# Altium integrated library Analog Devices Data Converters Digital-to-Analog Converters.IntLib: 2231 symbols (part 144 of 181)
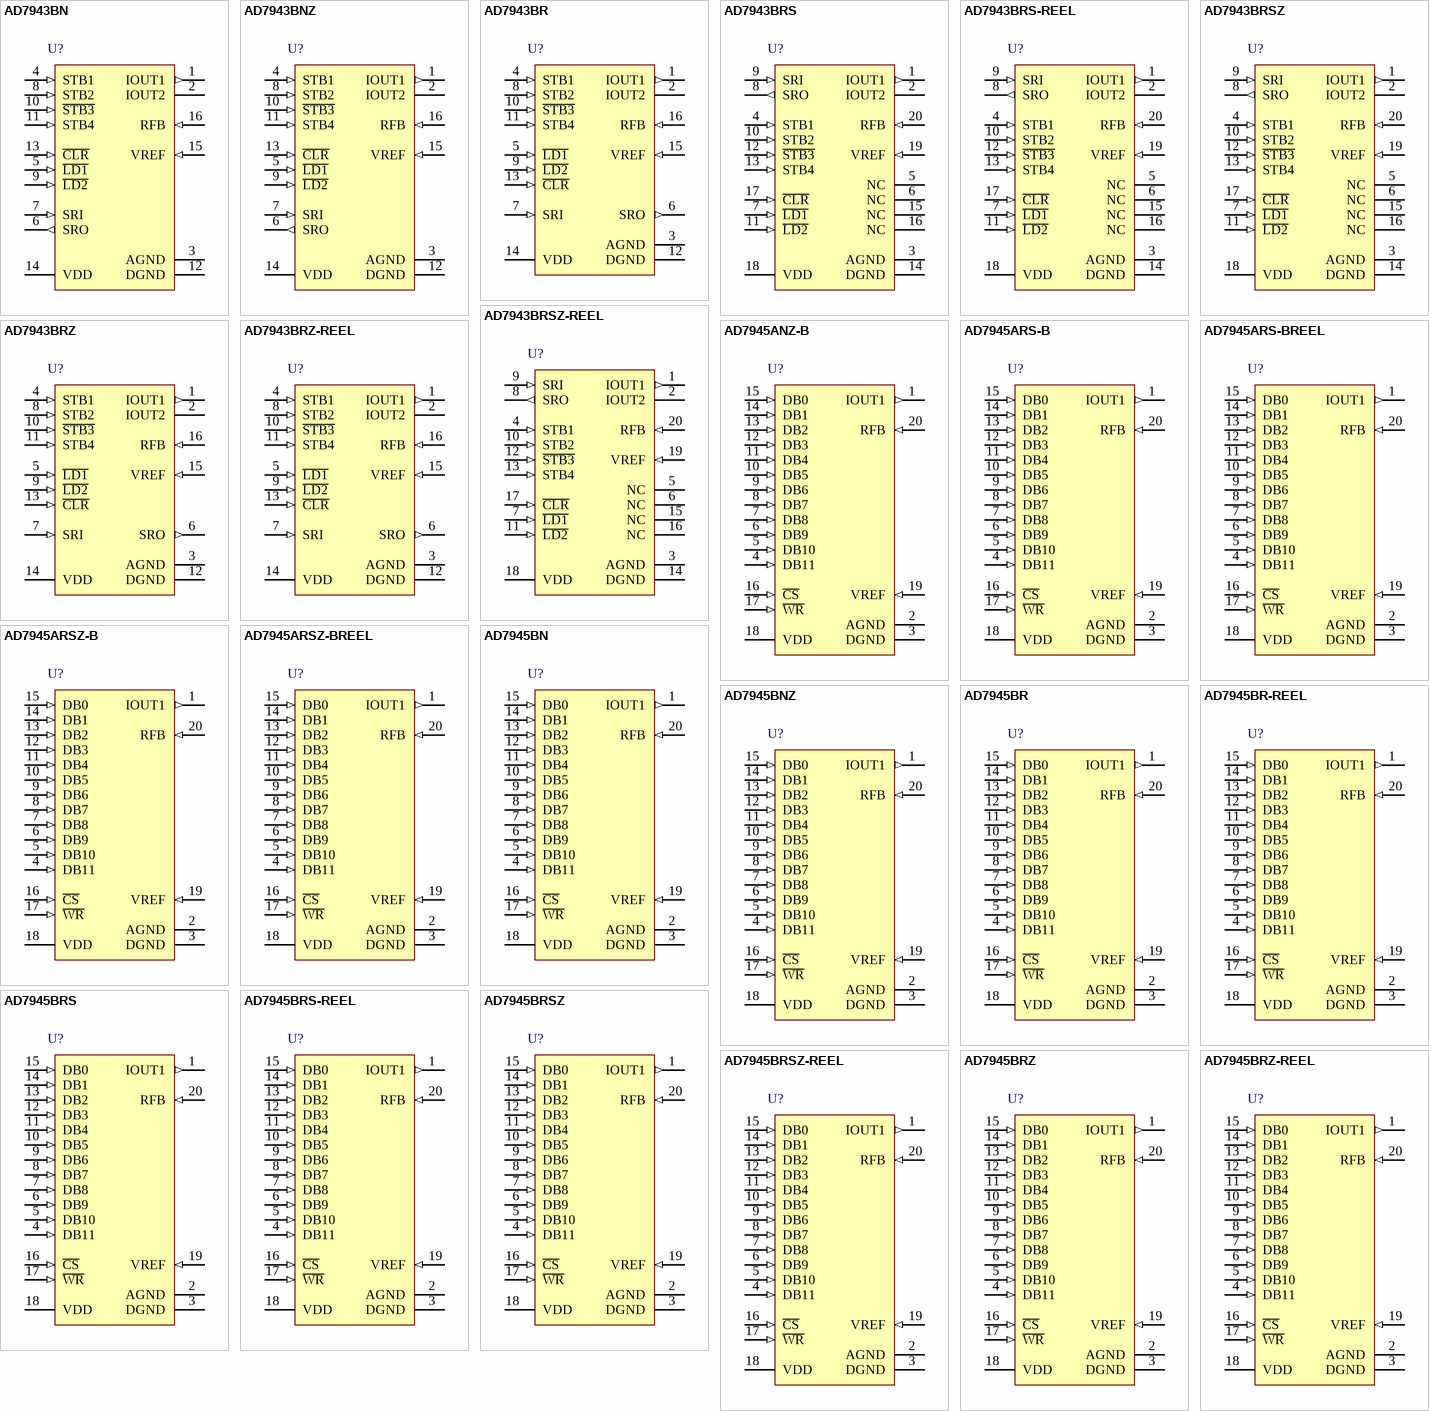
[diagram p257: symbols AD7943BN to AD7945BRZ-REEL]

## AD7943BR
designator U?
Single 12-Bit Multiplying Digital-to-Analog Converter, 3.3 V / 5 V, -40 to +85 degC, RW-16, Tube; Generic Part Number: AD7943; Manufacturer: Analog Devices; PartNumber: AD7943BR; # DAC Outputs: 1; Max V+: 5.5V; Op Pwr Diss: 25µW; Resolution (Bits): 12; Settling Time: 600ns; Single Supply: Yes; DatasheetVersion: Rev.B; PackageVersion: 032707-B; PackageReference: RW-16; PackageDescription: 16-Lead Standard Small Outline Package [SOIC_W]; Supplier 1: Digi-Key; Supplier Part Number 1: AD7943BR-ND; Supplier 2: Mouser; Supplier Part Number 2: 584-AD7943BR; Packing: Tube; RoHS: N; Mounting Technology: Surface Mount; Code_JEDEC: MS-013-AA; Code_IPC: SOIC127P1030-16; ComponentLink1Description: Manufacturer URL; ComponentLink1URL: http://www.analog.com/en/index.html; ComponentLink2Description: Datasheet; ComponentLink2URL: http://www.analog.com/static/imported-files/data_sheets/AD7943_7945_7948.pdf; ComponentLink3Description: Package Specification; ComponentLink3URL: http://www.analog.com/static/imported-files/packages/PKG_PDF/SOIC_WIDE%20%28RW%29/RW_16.pdf; ComponentLink4Description: Product URL; ComponentLink4URL: http://www.analog.com/en/digital-to-analog-converters/da-converters/ad7943/products/product.html
footprint RW-16_N (SOIC, 16-Leads, Body 10.3x7.5mm, Pitch 1.27mm, IPC Medium Density)
footprint RW-16_L (SOIC, 16-Leads, Body 10.3x7.5mm, Pitch 1.27mm, IPC High Density)
footprint RW-16_M (SOIC, 16-Leads, Body 10.3x7.5mm, Pitch 1.27mm, IPC Low Density)
pins: 1 IOUT1 (out) "DAC current output terminal 1.", 2 IOUT2 "DAC current output terminal 2. This should be connected to the AGND pin.", 3 AGND (power) "This pin connects to the back gates of the current steering switches. In normal operation, it should be connected to the signal ground of the system. In biased single-supply operation it may be biased to some voltage between (See Datasheet)", 4 STB1 (in) "This is the Strobe 1 input. Data is clocked into the input shift register on the rising edge of this signal. S\T\B\3\ must be high. STB2, STB4 must be low.", 5 ~{LD1} (in) "Active low inputs. When both of these are low, the DAC register is updated and the output will change to reflect this.", 6 SRO (out), 7 SRI (in) "Serial Data Input. Data on this line will be clocked into the input shift register on one of the Strobe inputs, when they are enabled.", 8 STB2 (in) "This is the Strobe 2 input. Data is clocked into the input shift register on the rising edge of this signal. S\T\B\3\ must be high. STB1, STB4 must be low.", 9 ~{LD2} (in) "Active low inputs. When both of these are low, the DAC register is updated and the output will change to reflect this.", 10 ~{STB3} (in) "This is the Strobe 3 input. Data is clocked into the input shift register on the falling edge of this signal. STB1, STB2, STB4, must be low.", 11 STB4 (in) "This is the Strobe 4 input. Data is clocked into the input shift register on the rising edge of this signal. S\T\B\3\ must be high. STB1, STB2 must be low.", 12 DGND (power) "Digital Ground.", 13 ~{CLR} (in) "Asynchronous C\L\R\ input. When this input is taken low, all 0s are loaded to the DAC latch.", 14 VDD (power) "Power supply input. This is nominally +5 V for Normal Mode Operation and +3.3 V to +5 V for Biased Mode Operation.", 15 VREF (in) "DAC reference input.", 16 RFB (in) "DAC feedback resistor pin."

## AD7943BRS
designator U?
Single 12-Bit Multiplying Digital-to-Analog Converter, 3.3 V / 5 V, -40 to +85 degC, RS-20, Tube; Generic Part Number: AD7943; Manufacturer: Analog Devices; PartNumber: AD7943BRS; # DAC Outputs: 1; Max V+: 5.5V; Op Pwr Diss: 25µW; Resolution (Bits): 12; Settling Time: 600ns; Single Supply: Yes; DatasheetVersion: Rev.B; PackageVersion: Mar-2003; PackageReference: RS-20; PackageDescription: 20-Lead Shrink Small Outline Package [SSOP]; Supplier 1: Digi-Key; Supplier Part Number 1: AD7943BRS-ND; Supplier 2: Mouser; Supplier Part Number 2: 584-AD7943BRS; Packing: Tube; RoHS: N; Mounting Technology: Surface Mount; Code_JEDEC: MO-150AE; ComponentLink1Description: Manufacturer URL; ComponentLink1URL: http://www.analog.com/en/index.html; ComponentLink2Description: Datasheet; ComponentLink2URL: http://www.analog.com/static/imported-files/data_sheets/AD7943_7945_7948.pdf; ComponentLink3Description: Package Specification; ComponentLink3URL: http://www.analog.com/static/imported-files/packages/318405805657546556503576154334802686596RS_20.pdf; ComponentLink4Description: Product URL; ComponentLink4URL: http://www.analog.com/en/digital-to-analog-converters/da-converters/ad7943/products/product.html
footprint RS-20_N (SOP, 20-Leads, Body 7.2x5.3mm, Pitch 0.65mm, IPC Medium Density)
footprint RS-20_L (SOP, 20-Leads, Body 7.2x5.3mm, Pitch 0.65mm, IPC High Density)
footprint RS-20_M (SOP, 20-Leads, Body 7.2x5.3mm, Pitch 0.65mm, IPC Low Density)
pins: 1 IOUT1 (out) "DAC current output terminal 1.", 2 IOUT2 "DAC current output terminal 2. This should be connected to the AGND pin.", 3 AGND (power) "This pin connects to the back gates of the current steering switches. In normal operation, it should be connected to the signal ground of the system. In biased single-supply operation it may be biased to some voltage between (See Datasheet)", 4 STB1 (in) "This is the Strobe 1 input. Data is clocked into the input shift register on the rising edge of this signal. S\T\B\3\ must be high. STB2, STB4 must be low.", 5 NC "No connect.", 6 NC "No connect.", 7 ~{LD1} (in) "Active low input. When both of these are low, the DAC register is updated and the output will change to reflect this.", 8 SRO (out), 9 SRI (in) "Serial Data Input. Data on this line will be clocked into the input shift register on one of the Strobe inputs, when they are enabled.", 10 STB2 (in) "This is the Strobe 2 input. Data is clocked into the input shift register on the rising edge of this signal. S\T\B\3\ must be high. STB1, STB4 must be low.", 11 ~{LD2} (in) "Active low input. When both of these are low, the DAC register is updated and the output will change to reflect this.", 12 ~{STB3} (in) "This is the Strobe 3 input. Data is clocked into the input shift register on the falling edge of this signal. STB1, STB2, STB4, must be low.", 13 STB4 (in) "This is the Strobe 4 input. Data is clocked into the input shift register on the rising edge of this signal. S\T\B\3\ must be high. STB1, STB2 must be low.", 14 DGND (power) "Digital Ground.", 15 NC "No connect.", 16 NC "No connect.", 17 ~{CLR} (in) "Asynchronous C\L\R\ input. When this input is taken low, all 0s are loaded to the DAC latch.", 18 VDD (power) "Power supply input. This is nominally +5 V for Normal Mode Operation and +3.3 V to +5 V for Biased Mode Operation.", 19 VREF (in) "DAC reference input.", 20 RFB (in) "DAC feedback resistor pin."

## AD7943BRS-REEL
designator U?
Single 12-Bit Multiplying Digital-to-Analog Converter, 3.3 V / 5 V, -40 to +85 degC, RS-20, Reel; Generic Part Number: AD7943; Manufacturer: Analog Devices; PartNumber: AD7943BRS-REEL; # DAC Outputs: 1; Max V+: 5.5V; Op Pwr Diss: 25µW; Resolution (Bits): 12; Settling Time: 600ns; Single Supply: Yes; DatasheetVersion: Rev.B; PackageVersion: Mar-2003; PackageReference: RS-20; PackageDescription: 20-Lead Shrink Small Outline Package [SSOP]; Supplier 1: Digi-Key; Supplier Part Number 1: AD7943BRS-REEL-ND; Supplier 2: Mouser; Supplier Part Number 2: 584-AD7943BRS-R; Packing: Reel; RoHS: N; Mounting Technology: Surface Mount; Code_JEDEC: MO-150AE; ComponentLink1Description: Manufacturer URL; ComponentLink1URL: http://www.analog.com/en/index.html; ComponentLink2Description: Datasheet; ComponentLink2URL: http://www.analog.com/static/imported-files/data_sheets/AD7943_7945_7948.pdf; ComponentLink3Description: Package Specification; ComponentLink3URL: http://www.analog.com/static/imported-files/packages/318405805657546556503576154334802686596RS_20.pdf; ComponentLink4Description: Product URL; ComponentLink4URL: http://www.analog.com/en/digital-to-analog-converters/da-converters/ad7943/products/product.html
footprint RS-20_N (SOP, 20-Leads, Body 7.2x5.3mm, Pitch 0.65mm, IPC Medium Density)
footprint RS-20_L (SOP, 20-Leads, Body 7.2x5.3mm, Pitch 0.65mm, IPC High Density)
footprint RS-20_M (SOP, 20-Leads, Body 7.2x5.3mm, Pitch 0.65mm, IPC Low Density)
pins: 1 IOUT1 (out) "DAC current output terminal 1.", 2 IOUT2 "DAC current output terminal 2. This should be connected to the AGND pin.", 3 AGND (power) "This pin connects to the back gates of the current steering switches. In normal operation, it should be connected to the signal ground of the system. In biased single-supply operation it may be biased to some voltage between (See Datasheet)", 4 STB1 (in) "This is the Strobe 1 input. Data is clocked into the input shift register on the rising edge of this signal. S\T\B\3\ must be high. STB2, STB4 must be low.", 5 NC "No connect.", 6 NC "No connect.", 7 ~{LD1} (in) "Active low input. When both of these are low, the DAC register is updated and the output will change to reflect this.", 8 SRO (out), 9 SRI (in) "Serial Data Input. Data on this line will be clocked into the input shift register on one of the Strobe inputs, when they are enabled.", 10 STB2 (in) "This is the Strobe 2 input. Data is clocked into the input shift register on the rising edge of this signal. S\T\B\3\ must be high. STB1, STB4 must be low.", 11 ~{LD2} (in) "Active low input. When both of these are low, the DAC register is updated and the output will change to reflect this.", 12 ~{STB3} (in) "This is the Strobe 3 input. Data is clocked into the input shift register on the falling edge of this signal. STB1, STB2, STB4, must be low.", 13 STB4 (in) "This is the Strobe 4 input. Data is clocked into the input shift register on the rising edge of this signal. S\T\B\3\ must be high. STB1, STB2 must be low.", 14 DGND (power) "Digital Ground.", 15 NC "No connect.", 16 NC "No connect.", 17 ~{CLR} (in) "Asynchronous C\L\R\ input. When this input is taken low, all 0s are loaded to the DAC latch.", 18 VDD (power) "Power supply input. This is nominally +5 V for Normal Mode Operation and +3.3 V to +5 V for Biased Mode Operation.", 19 VREF (in) "DAC reference input.", 20 RFB (in) "DAC feedback resistor pin."

## AD7943BRSZ
designator U?
Single 12-Bit Multiplying Digital-to-Analog Converter, 3.3 V / 5 V, -40 to +85 degC, RS-20, Pb-Free, Tube; Generic Part Number: AD7943; Manufacturer: Analog Devices; PartNumber: AD7943BRSZ; # DAC Outputs: 1; Max V+: 5.5V; Op Pwr Diss: 25µW; Resolution (Bits): 12; Settling Time: 600ns; Single Supply: Yes; DatasheetVersion: Rev.B; PackageVersion: Mar-2003; PackageReference: RS-20; PackageDescription: 20-Lead Shrink Small Outline Package [SSOP]; Supplier 1: Digi-Key; Supplier Part Number 1: AD7943BRSZ-ND; Supplier 2: Newark; Supplier Part Number 2: 59K6064; Supplier 3: Mouser; Supplier Part Number 3: 584-AD7943BRSZ; Packing: Tube; RoHS: Y; Mounting Technology: Surface Mount; Code_JEDEC: MO-150AE; ComponentLink1Description: Manufacturer URL; ComponentLink1URL: http://www.analog.com/en/index.html; ComponentLink2Description: Datasheet; ComponentLink2URL: http://www.analog.com/static/imported-files/data_sheets/AD7943_7945_7948.pdf; ComponentLink3Description: Package Specification; ComponentLink3URL: http://www.analog.com/static/imported-files/packages/318405805657546556503576154334802686596RS_20.pdf; ComponentLink4Description: Product URL; ComponentLink4URL: http://www.analog.com/en/digital-to-analog-converters/da-converters/ad7943/products/product.html
footprint RS-20_N (SOP, 20-Leads, Body 7.2x5.3mm, Pitch 0.65mm, IPC Medium Density)
footprint RS-20_L (SOP, 20-Leads, Body 7.2x5.3mm, Pitch 0.65mm, IPC High Density)
footprint RS-20_M (SOP, 20-Leads, Body 7.2x5.3mm, Pitch 0.65mm, IPC Low Density)
pins: 1 IOUT1 (out) "DAC current output terminal 1.", 2 IOUT2 "DAC current output terminal 2. This should be connected to the AGND pin.", 3 AGND (power) "This pin connects to the back gates of the current steering switches. In normal operation, it should be connected to the signal ground of the system. In biased single-supply operation it may be biased to some voltage between (See Datasheet)", 4 STB1 (in) "This is the Strobe 1 input. Data is clocked into the input shift register on the rising edge of this signal. S\T\B\3\ must be high. STB2, STB4 must be low.", 5 NC "No connect.", 6 NC "No connect.", 7 ~{LD1} (in) "Active low input. When both of these are low, the DAC register is updated and the output will change to reflect this.", 8 SRO (out), 9 SRI (in) "Serial Data Input. Data on this line will be clocked into the input shift register on one of the Strobe inputs, when they are enabled.", 10 STB2 (in) "This is the Strobe 2 input. Data is clocked into the input shift register on the rising edge of this signal. S\T\B\3\ must be high. STB1, STB4 must be low.", 11 ~{LD2} (in) "Active low input. When both of these are low, the DAC register is updated and the output will change to reflect this.", 12 ~{STB3} (in) "This is the Strobe 3 input. Data is clocked into the input shift register on the falling edge of this signal. STB1, STB2, STB4, must be low.", 13 STB4 (in) "This is the Strobe 4 input. Data is clocked into the input shift register on the rising edge of this signal. S\T\B\3\ must be high. STB1, STB2 must be low.", 14 DGND (power) "Digital Ground.", 15 NC "No connect.", 16 NC "No connect.", 17 ~{CLR} (in) "Asynchronous C\L\R\ input. When this input is taken low, all 0s are loaded to the DAC latch.", 18 VDD (power) "Power supply input. This is nominally +5 V for Normal Mode Operation and +3.3 V to +5 V for Biased Mode Operation.", 19 VREF (in) "DAC reference input.", 20 RFB (in) "DAC feedback resistor pin."

## AD7943BRSZ-REEL
designator U?
Single 12-Bit Multiplying Digital-to-Analog Converter, 3.3 V / 5 V, -40 to +85 degC, RS-20, Pb-Free, Reel; Generic Part Number: AD7943; Manufacturer: Analog Devices; PartNumber: AD7943BRSZ-REEL; # DAC Outputs: 1; Max V+: 5.5V; Op Pwr Diss: 25µW; Resolution (Bits): 12; Settling Time: 600ns; Single Supply: Yes; DatasheetVersion: Rev.B; PackageVersion: Mar-2003; PackageReference: RS-20; PackageDescription: 20-Lead Shrink Small Outline Package [SSOP]; Supplier 1: Digi-Key; Supplier Part Number 1: AD7943BRSZ-REEL-ND; Supplier 2: Mouser; Supplier Part Number 2: 584-AD7943BRSZ-R; Packing: Reel; RoHS: Y; Mounting Technology: Surface Mount; Code_JEDEC: MO-150AE; ComponentLink1Description: Manufacturer URL; ComponentLink1URL: http://www.analog.com/en/index.html; ComponentLink2Description: Datasheet; ComponentLink2URL: http://www.analog.com/static/imported-files/data_sheets/AD7943_7945_7948.pdf; ComponentLink3Description: Package Specification; ComponentLink3URL: http://www.analog.com/static/imported-files/packages/318405805657546556503576154334802686596RS_20.pdf; ComponentLink4Description: Product URL; ComponentLink4URL: http://www.analog.com/en/digital-to-analog-converters/da-converters/ad7943/products/product.html
footprint RS-20_N (SOP, 20-Leads, Body 7.2x5.3mm, Pitch 0.65mm, IPC Medium Density)
footprint RS-20_L (SOP, 20-Leads, Body 7.2x5.3mm, Pitch 0.65mm, IPC High Density)
footprint RS-20_M (SOP, 20-Leads, Body 7.2x5.3mm, Pitch 0.65mm, IPC Low Density)
pins: 1 IOUT1 (out) "DAC current output terminal 1.", 2 IOUT2 "DAC current output terminal 2. This should be connected to the AGND pin.", 3 AGND (power) "This pin connects to the back gates of the current steering switches. In normal operation, it should be connected to the signal ground of the system. In biased single-supply operation it may be biased to some voltage between (See Datasheet)", 4 STB1 (in) "This is the Strobe 1 input. Data is clocked into the input shift register on the rising edge of this signal. S\T\B\3\ must be high. STB2, STB4 must be low.", 5 NC "No connect.", 6 NC "No connect.", 7 ~{LD1} (in) "Active low input. When both of these are low, the DAC register is updated and the output will change to reflect this.", 8 SRO (out), 9 SRI (in) "Serial Data Input. Data on this line will be clocked into the input shift register on one of the Strobe inputs, when they are enabled.", 10 STB2 (in) "This is the Strobe 2 input. Data is clocked into the input shift register on the rising edge of this signal. S\T\B\3\ must be high. STB1, STB4 must be low.", 11 ~{LD2} (in) "Active low input. When both of these are low, the DAC register is updated and the output will change to reflect this.", 12 ~{STB3} (in) "This is the Strobe 3 input. Data is clocked into the input shift register on the falling edge of this signal. STB1, STB2, STB4, must be low.", 13 STB4 (in) "This is the Strobe 4 input. Data is clocked into the input shift register on the rising edge of this signal. S\T\B\3\ must be high. STB1, STB2 must be low.", 14 DGND (power) "Digital Ground.", 15 NC "No connect.", 16 NC "No connect.", 17 ~{CLR} (in) "Asynchronous C\L\R\ input. When this input is taken low, all 0s are loaded to the DAC latch.", 18 VDD (power) "Power supply input. This is nominally +5 V for Normal Mode Operation and +3.3 V to +5 V for Biased Mode Operation.", 19 VREF (in) "DAC reference input.", 20 RFB (in) "DAC feedback resistor pin."

## AD7943BRZ
designator U?
Single 12-Bit Multiplying Digital-to-Analog Converter, 3.3 V / 5 V, -40 to +85 degC, RW-16, Pb-Free, Tube; Generic Part Number: AD7943; Manufacturer: Analog Devices; PartNumber: AD7943BRZ; # DAC Outputs: 1; Max V+: 5.5V; Op Pwr Diss: 25µW; Resolution (Bits): 12; Settling Time: 600ns; Single Supply: Yes; DatasheetVersion: Rev.B; PackageVersion: 032707-B; PackageReference: RW-16; PackageDescription: 16-Lead Standard Small Outline Package [SOIC_W]; Supplier 1: Digi-Key; Supplier Part Number 1: AD7943BRZ-ND; Supplier 2: Newark; Supplier Part Number 2: 59K6066; Supplier 3: Mouser; Supplier Part Number 3: 584-AD7943BRZ; Packing: Tube; RoHS: Y; Mounting Technology: Surface Mount; Code_JEDEC: MS-013-AA; Code_IPC: SOIC127P1030-16; ComponentLink1Description: Manufacturer URL; ComponentLink1URL: http://www.analog.com/en/index.html; ComponentLink2Description: Datasheet; ComponentLink2URL: http://www.analog.com/static/imported-files/data_sheets/AD7943_7945_7948.pdf; ComponentLink3Description: Package Specification; ComponentLink3URL: http://www.analog.com/static/imported-files/packages/PKG_PDF/SOIC_WIDE%20%28RW%29/RW_16.pdf; ComponentLink4Description: Product URL; ComponentLink4URL: http://www.analog.com/en/digital-to-analog-converters/da-converters/ad7943/products/product.html
footprint RW-16_N (SOIC, 16-Leads, Body 10.3x7.5mm, Pitch 1.27mm, IPC Medium Density)
footprint RW-16_L (SOIC, 16-Leads, Body 10.3x7.5mm, Pitch 1.27mm, IPC High Density)
footprint RW-16_M (SOIC, 16-Leads, Body 10.3x7.5mm, Pitch 1.27mm, IPC Low Density)
pins: 1 IOUT1 (out) "DAC current output terminal 1.", 2 IOUT2 "DAC current output terminal 2. This should be connected to the AGND pin.", 3 AGND (power) "This pin connects to the back gates of the current steering switches. In normal operation, it should be connected to the signal ground of the system. In biased single-supply operation it may be biased to some voltage between (See Datasheet)", 4 STB1 (in) "This is the Strobe 1 input. Data is clocked into the input shift register on the rising edge of this signal. S\T\B\3\ must be high. STB2, STB4 must be low.", 5 ~{LD1} (in) "Active low inputs. When both of these are low, the DAC register is updated and the output will change to reflect this.", 6 SRO (out), 7 SRI (in) "Serial Data Input. Data on this line will be clocked into the input shift register on one of the Strobe inputs, when they are enabled.", 8 STB2 (in) "This is the Strobe 2 input. Data is clocked into the input shift register on the rising edge of this signal. S\T\B\3\ must be high. STB1, STB4 must be low.", 9 ~{LD2} (in) "Active low inputs. When both of these are low, the DAC register is updated and the output will change to reflect this.", 10 ~{STB3} (in) "This is the Strobe 3 input. Data is clocked into the input shift register on the falling edge of this signal. STB1, STB2, STB4, must be low.", 11 STB4 (in) "This is the Strobe 4 input. Data is clocked into the input shift register on the rising edge of this signal. S\T\B\3\ must be high. STB1, STB2 must be low.", 12 DGND (power) "Digital Ground.", 13 ~{CLR} (in) "Asynchronous C\L\R\ input. When this input is taken low, all 0s are loaded to the DAC latch.", 14 VDD (power) "Power supply input. This is nominally +5 V for Normal Mode Operation and +3.3 V to +5 V for Biased Mode Operation.", 15 VREF (in) "DAC reference input.", 16 RFB (in) "DAC feedback resistor pin."

## AD7943BRZ-REEL
designator U?
Single 12-Bit Multiplying Digital-to-Analog Converter, 3.3 V / 5 V, 0 to +70 degC, RW-16, Pb-Free, Reel; Generic Part Number: AD7943; Manufacturer: Analog Devices; PartNumber: AD7943BRZ-REEL; # DAC Outputs: 1; Max V+: 5.5V; Op Pwr Diss: 25µW; Resolution (Bits): 12; Settling Time: 600ns; Single Supply: Yes; DatasheetVersion: Rev.B; PackageVersion: 032707-B; PackageReference: RW-16; PackageDescription: 16-Lead Standard Small Outline Package [SOIC_W]; Supplier 1: Digi-Key; Supplier Part Number 1: AD7943BRZ-REEL-ND; Supplier 2: Mouser; Supplier Part Number 2: 584-AD7943BRZ-R; Packing: Reel; RoHS: Y; Mounting Technology: Surface Mount; Code_JEDEC: MS-013-AA; Code_IPC: SOIC127P1030-16; ComponentLink1Description: Manufacturer URL; ComponentLink1URL: http://www.analog.com/en/index.html; ComponentLink2Description: Datasheet; ComponentLink2URL: http://www.analog.com/static/imported-files/data_sheets/AD7943_7945_7948.pdf; ComponentLink3Description: Package Specification; ComponentLink3URL: http://www.analog.com/static/imported-files/packages/PKG_PDF/SOIC_WIDE%20%28RW%29/RW_16.pdf; ComponentLink4Description: Product URL; ComponentLink4URL: http://www.analog.com/en/digital-to-analog-converters/da-converters/ad7943/products/product.html
footprint RW-16_N (SOIC, 16-Leads, Body 10.3x7.5mm, Pitch 1.27mm, IPC Medium Density)
footprint RW-16_L (SOIC, 16-Leads, Body 10.3x7.5mm, Pitch 1.27mm, IPC High Density)
footprint RW-16_M (SOIC, 16-Leads, Body 10.3x7.5mm, Pitch 1.27mm, IPC Low Density)
pins: 1 IOUT1 (out) "DAC current output terminal 1.", 2 IOUT2 "DAC current output terminal 2. This should be connected to the AGND pin.", 3 AGND (power) "This pin connects to the back gates of the current steering switches. In normal operation, it should be connected to the signal ground of the system. In biased single-supply operation it may be biased to some voltage between (See Datasheet)", 4 STB1 (in) "This is the Strobe 1 input. Data is clocked into the input shift register on the rising edge of this signal. S\T\B\3\ must be high. STB2, STB4 must be low.", 5 ~{LD1} (in) "Active low inputs. When both of these are low, the DAC register is updated and the output will change to reflect this.", 6 SRO (out), 7 SRI (in) "Serial Data Input. Data on this line will be clocked into the input shift register on one of the Strobe inputs, when they are enabled.", 8 STB2 (in) "This is the Strobe 2 input. Data is clocked into the input shift register on the rising edge of this signal. S\T\B\3\ must be high. STB1, STB4 must be low.", 9 ~{LD2} (in) "Active low inputs. When both of these are low, the DAC register is updated and the output will change to reflect this.", 10 ~{STB3} (in) "This is the Strobe 3 input. Data is clocked into the input shift register on the falling edge of this signal. STB1, STB2, STB4, must be low.", 11 STB4 (in) "This is the Strobe 4 input. Data is clocked into the input shift register on the rising edge of this signal. S\T\B\3\ must be high. STB1, STB2 must be low.", 12 DGND (power) "Digital Ground.", 13 ~{CLR} (in) "Asynchronous C\L\R\ input. When this input is taken low, all 0s are loaded to the DAC latch.", 14 VDD (power) "Power supply input. This is nominally +5 V for Normal Mode Operation and +3.3 V to +5 V for Biased Mode Operation.", 15 VREF (in) "DAC reference input.", 16 RFB (in) "DAC feedback resistor pin."

## AD7945ANZ-B
designator U?
Single 12-Bit Multiplying Digital-to-Analog Converter, 3.3 V / 5 V, -40 to +85 degC, N-20, Pb-Free, Tube; Generic Part Number: AD7945; Manufacturer: Analog Devices; PartNumber: AD7945ANZ-B; # DAC Outputs: 1; Max V+: 5.5V; Op Pwr Diss: 25µW; Resolution (Bits): 12; Settling Time: 600ns; Single Supply: Yes; DatasheetVersion: Rev.B; PackageVersion: 070706-A; PackageReference: N-20; PackageDescription: 20-Lead Plastic Dual In-Line Package [PDIP] Narrow Body; Supplier 1: Digi-Key; Supplier Part Number 1: AD7945ANZ-B-ND; Supplier 2: Mouser; Supplier Part Number 2: 584-AD7945ANZ-B; Packing: Tube; RoHS: Y; Mounting Technology: Through Hole; Code_JEDEC: MS-001; ComponentLink1Description: Manufacturer URL; ComponentLink1URL: http://www.analog.com/en/index.html; ComponentLink2Description: Datasheet; ComponentLink2URL: http://www.analog.com/static/imported-files/data_sheets/AD7943_7945_7948.pdf; ComponentLink3Description: Package Specification; ComponentLink3URL: http://www.analog.com/static/imported-files/packages/50601349676519N_20.pdf; ComponentLink4Description: Product URL; ComponentLink4URL: http://www.analog.com/en/digital-to-analog-converters/da-converters/ad7945/products/product.html
footprint N-20 (DIP, 20-Leads, Row Spacing 7.62mm, Pitch 2.54mm, Body 25.9x6.6mm)
pins: 1 IOUT1 (out) "DAC current output terminal 1.", 2 AGND (power) "This pin connects to the back gates of the current steering switches. The DAC IOUT2 terminal is also connected internally to this point.", 3 DGND (power) "Digital Ground.", 4 DB11 (in) "Digital Data Input.", 5 DB10 (in) "Digital Data Input.", 6 DB9 (in) "Digital Data Input.", 7 DB8 (in) "Digital Data Input.", 8 DB7 (in) "Digital Data Input.", 9 DB6 (in) "Digital Data Input.", 10 DB5 (in) "Digital Data Input.", 11 DB4 (in) "Digital Data Input.", 12 DB3 (in) "Digital Data Input.", 13 DB2 (in) "Digital Data Input.", 14 DB1 (in) "Digital Data Input.", 15 DB0 (in) "Digital Data Input.", 16 ~{CS} (in) "Active Low, Chip Select Input.", 17 ~{WR} (in) "Active Low, Write Input.", 18 VDD (power) "Power supply input. This is nominally +5 V for Normal Mode Operation and +3.3 V to +5 V for Biased Mode Operation.", 19 VREF (in) "DAC reference input.", 20 RFB (in) "DAC feedback resistor pin."

## AD7945ARS-B
designator U?
Single 12-Bit Multiplying Digital-to-Analog Converter, 3.3 V / 5 V, -40 to +85 degC, RS-20, Tube; Generic Part Number: AD7945; Manufacturer: Analog Devices; PartNumber: AD7945ARS-B; # DAC Outputs: 1; Max V+: 5.5V; Op Pwr Diss: 25µW; Resolution (Bits): 12; Settling Time: 600ns; Single Supply: Yes; DatasheetVersion: Rev.B; PackageVersion: Mar-2003; PackageReference: RS-20; PackageDescription: 20-Lead Shrink Small Outline Package [SSOP]; Supplier 1: Digi-Key; Supplier Part Number 1: AD7945ARS-B-ND; Supplier 2: Mouser; Supplier Part Number 2: 584-AD7945ARS-B; Packing: Tube; RoHS: N; Mounting Technology: Surface Mount; Code_JEDEC: MO-150AE; ComponentLink1Description: Manufacturer URL; ComponentLink1URL: http://www.analog.com/en/index.html; ComponentLink2Description: Datasheet; ComponentLink2URL: http://www.analog.com/static/imported-files/data_sheets/AD7943_7945_7948.pdf; ComponentLink3Description: Package Specification; ComponentLink3URL: http://www.analog.com/static/imported-files/packages/318405805657546556503576154334802686596RS_20.pdf; ComponentLink4Description: Product URL; ComponentLink4URL: http://www.analog.com/en/digital-to-analog-converters/da-converters/ad7945/products/product.html
footprint RS-20_N (SOP, 20-Leads, Body 7.2x5.3mm, Pitch 0.65mm, IPC Medium Density)
footprint RS-20_L (SOP, 20-Leads, Body 7.2x5.3mm, Pitch 0.65mm, IPC High Density)
footprint RS-20_M (SOP, 20-Leads, Body 7.2x5.3mm, Pitch 0.65mm, IPC Low Density)
pins: 1 IOUT1 (out) "DAC current output terminal 1.", 2 AGND (power) "This pin connects to the back gates of the current steering switches. The DAC IOUT2 terminal is also connected internally to this point.", 3 DGND (power) "Digital Ground.", 4 DB11 (in) "Digital Data Input.", 5 DB10 (in) "Digital Data Input.", 6 DB9 (in) "Digital Data Input.", 7 DB8 (in) "Digital Data Input.", 8 DB7 (in) "Digital Data Input.", 9 DB6 (in) "Digital Data Input.", 10 DB5 (in) "Digital Data Input.", 11 DB4 (in) "Digital Data Input.", 12 DB3 (in) "Digital Data Input.", 13 DB2 (in) "Digital Data Input.", 14 DB1 (in) "Digital Data Input.", 15 DB0 (in) "Digital Data Input.", 16 ~{CS} (in) "Active Low, Chip Select Input.", 17 ~{WR} (in) "Active Low, Write Input.", 18 VDD (power) "Power supply input. This is nominally +5 V for Normal Mode Operation and +3.3 V to +5 V for Biased Mode Operation.", 19 VREF (in) "DAC reference input.", 20 RFB (in) "DAC feedback resistor pin."

## AD7945ARS-BREEL
designator U?
Single 12-Bit Multiplying Digital-to-Analog Converter, 3.3 V / 5 V, -40 to +85 degC, RS-20, Reel; Generic Part Number: AD7945; Manufacturer: Analog Devices; PartNumber: AD7945ARS-BREEL; # DAC Outputs: 1; Max V+: 5.5V; Op Pwr Diss: 25µW; Resolution (Bits): 12; Settling Time: 600ns; Single Supply: Yes; DatasheetVersion: Rev.B; PackageVersion: Mar-2003; PackageReference: RS-20; PackageDescription: 20-Lead Shrink Small Outline Package [SSOP]; Supplier 1: Digi-Key; Supplier Part Number 1: AD7945ARS-BREEL-ND; Supplier 2: Mouser; Supplier Part Number 2: 584-AD7945ARS-BR; Packing: Reel; RoHS: N; Mounting Technology: Surface Mount; Code_JEDEC: MO-150AE; ComponentLink1Description: Manufacturer URL; ComponentLink1URL: http://www.analog.com/en/index.html; ComponentLink2Description: Datasheet; ComponentLink2URL: http://www.analog.com/static/imported-files/data_sheets/AD7943_7945_7948.pdf; ComponentLink3Description: Package Specification; ComponentLink3URL: http://www.analog.com/static/imported-files/packages/318405805657546556503576154334802686596RS_20.pdf; ComponentLink4Description: Product URL; ComponentLink4URL: http://www.analog.com/en/digital-to-analog-converters/da-converters/ad7945/products/product.html
footprint RS-20_N (SOP, 20-Leads, Body 7.2x5.3mm, Pitch 0.65mm, IPC Medium Density)
footprint RS-20_L (SOP, 20-Leads, Body 7.2x5.3mm, Pitch 0.65mm, IPC High Density)
footprint RS-20_M (SOP, 20-Leads, Body 7.2x5.3mm, Pitch 0.65mm, IPC Low Density)
pins: 1 IOUT1 (out) "DAC current output terminal 1.", 2 AGND (power) "This pin connects to the back gates of the current steering switches. The DAC IOUT2 terminal is also connected internally to this point.", 3 DGND (power) "Digital Ground.", 4 DB11 (in) "Digital Data Input.", 5 DB10 (in) "Digital Data Input.", 6 DB9 (in) "Digital Data Input.", 7 DB8 (in) "Digital Data Input.", 8 DB7 (in) "Digital Data Input.", 9 DB6 (in) "Digital Data Input.", 10 DB5 (in) "Digital Data Input.", 11 DB4 (in) "Digital Data Input.", 12 DB3 (in) "Digital Data Input.", 13 DB2 (in) "Digital Data Input.", 14 DB1 (in) "Digital Data Input.", 15 DB0 (in) "Digital Data Input.", 16 ~{CS} (in) "Active Low, Chip Select Input.", 17 ~{WR} (in) "Active Low, Write Input.", 18 VDD (power) "Power supply input. This is nominally +5 V for Normal Mode Operation and +3.3 V to +5 V for Biased Mode Operation.", 19 VREF (in) "DAC reference input.", 20 RFB (in) "DAC feedback resistor pin."

## AD7945ARSZ-B
designator U?
Single 12-Bit Multiplying Digital-to-Analog Converter, 3.3 V / 5 V, 0 to +70 degC, RS-20, Pb-Free, Tube; Generic Part Number: AD7945; Manufacturer: Analog Devices; PartNumber: AD7945ARSZ-B; # DAC Outputs: 1; Max V+: 5.5V; Op Pwr Diss: 25µW; Resolution (Bits): 12; Settling Time: 600ns; Single Supply: Yes; DatasheetVersion: Rev.B; PackageVersion: Mar-2003; PackageReference: RS-20; PackageDescription: 20-Lead Shrink Small Outline Package [SSOP]; Supplier 1: Digi-Key; Supplier Part Number 1: AD7945ARSZ-B-ND; Supplier 2: Mouser; Supplier Part Number 2: 584-AD7945ARSZ-B; Packing: Tube; RoHS: Y; Mounting Technology: Surface Mount; Code_JEDEC: MO-150AE; ComponentLink1Description: Manufacturer URL; ComponentLink1URL: http://www.analog.com/en/index.html; ComponentLink2Description: Datasheet; ComponentLink2URL: http://www.analog.com/static/imported-files/data_sheets/AD7943_7945_7948.pdf; ComponentLink3Description: Package Specification; ComponentLink3URL: http://www.analog.com/static/imported-files/packages/318405805657546556503576154334802686596RS_20.pdf; ComponentLink4Description: Product URL; ComponentLink4URL: http://www.analog.com/en/digital-to-analog-converters/da-converters/ad7945/products/product.html
footprint RS-20_N (SOP, 20-Leads, Body 7.2x5.3mm, Pitch 0.65mm, IPC Medium Density)
footprint RS-20_L (SOP, 20-Leads, Body 7.2x5.3mm, Pitch 0.65mm, IPC High Density)
footprint RS-20_M (SOP, 20-Leads, Body 7.2x5.3mm, Pitch 0.65mm, IPC Low Density)
pins: 1 IOUT1 (out) "DAC current output terminal 1.", 2 AGND (power) "This pin connects to the back gates of the current steering switches. The DAC IOUT2 terminal is also connected internally to this point.", 3 DGND (power) "Digital Ground.", 4 DB11 (in) "Digital Data Input.", 5 DB10 (in) "Digital Data Input.", 6 DB9 (in) "Digital Data Input.", 7 DB8 (in) "Digital Data Input.", 8 DB7 (in) "Digital Data Input.", 9 DB6 (in) "Digital Data Input.", 10 DB5 (in) "Digital Data Input.", 11 DB4 (in) "Digital Data Input.", 12 DB3 (in) "Digital Data Input.", 13 DB2 (in) "Digital Data Input.", 14 DB1 (in) "Digital Data Input.", 15 DB0 (in) "Digital Data Input.", 16 ~{CS} (in) "Active Low, Chip Select Input.", 17 ~{WR} (in) "Active Low, Write Input.", 18 VDD (power) "Power supply input. This is nominally +5 V for Normal Mode Operation and +3.3 V to +5 V for Biased Mode Operation.", 19 VREF (in) "DAC reference input.", 20 RFB (in) "DAC feedback resistor pin."

## AD7945ARSZ-BREEL
designator U?
Single 12-Bit Multiplying Digital-to-Analog Converter, 3.3 V / 5 V, 0 to +70 degC, RS-20, Pb-Free, Reel; Generic Part Number: AD7945; Manufacturer: Analog Devices; PartNumber: AD7945ARSZ-BREEL; # DAC Outputs: 1; Max V+: 5.5V; Op Pwr Diss: 25µW; Resolution (Bits): 12; Settling Time: 600ns; Single Supply: Yes; DatasheetVersion: Rev.B; PackageVersion: Mar-2003; PackageReference: RS-20; PackageDescription: 20-Lead Shrink Small Outline Package [SSOP]; Supplier 1: Digi-Key; Supplier Part Number 1: AD7945ARSZ-BREEL-ND; Supplier 2: Mouser; Supplier Part Number 2: 584-AD7945ARSZ-BR; Packing: Reel; RoHS: Y; Mounting Technology: Surface Mount; Code_JEDEC: MO-150AE; ComponentLink1Description: Manufacturer URL; ComponentLink1URL: http://www.analog.com/en/index.html; ComponentLink2Description: Datasheet; ComponentLink2URL: http://www.analog.com/static/imported-files/data_sheets/AD7943_7945_7948.pdf; ComponentLink3Description: Package Specification; ComponentLink3URL: http://www.analog.com/static/imported-files/packages/318405805657546556503576154334802686596RS_20.pdf; ComponentLink4Description: Product URL; ComponentLink4URL: http://www.analog.com/en/digital-to-analog-converters/da-converters/ad7945/products/product.html
footprint RS-20_N (SOP, 20-Leads, Body 7.2x5.3mm, Pitch 0.65mm, IPC Medium Density)
footprint RS-20_L (SOP, 20-Leads, Body 7.2x5.3mm, Pitch 0.65mm, IPC High Density)
footprint RS-20_M (SOP, 20-Leads, Body 7.2x5.3mm, Pitch 0.65mm, IPC Low Density)
pins: 1 IOUT1 (out) "DAC current output terminal 1.", 2 AGND (power) "This pin connects to the back gates of the current steering switches. The DAC IOUT2 terminal is also connected internally to this point.", 3 DGND (power) "Digital Ground.", 4 DB11 (in) "Digital Data Input.", 5 DB10 (in) "Digital Data Input.", 6 DB9 (in) "Digital Data Input.", 7 DB8 (in) "Digital Data Input.", 8 DB7 (in) "Digital Data Input.", 9 DB6 (in) "Digital Data Input.", 10 DB5 (in) "Digital Data Input.", 11 DB4 (in) "Digital Data Input.", 12 DB3 (in) "Digital Data Input.", 13 DB2 (in) "Digital Data Input.", 14 DB1 (in) "Digital Data Input.", 15 DB0 (in) "Digital Data Input.", 16 ~{CS} (in) "Active Low, Chip Select Input.", 17 ~{WR} (in) "Active Low, Write Input.", 18 VDD (power) "Power supply input. This is nominally +5 V for Normal Mode Operation and +3.3 V to +5 V for Biased Mode Operation.", 19 VREF (in) "DAC reference input.", 20 RFB (in) "DAC feedback resistor pin."

## AD7945BN
designator U?
Single 12-Bit Multiplying Digital-to-Analog Converter, 3.3 V / 5 V, -40 to +85 degC, N-20, Tube; Generic Part Number: AD7945; Manufacturer: Analog Devices; PartNumber: AD7945BN; # DAC Outputs: 1; Max V+: 5.5V; Op Pwr Diss: 25µW; Resolution (Bits): 12; Settling Time: 600ns; Single Supply: Yes; DatasheetVersion: Rev.B; PackageVersion: 070706-A; PackageReference: N-20; PackageDescription: 20-Lead Plastic Dual In-Line Package [PDIP] Narrow Body; Supplier 1: Digi-Key; Supplier Part Number 1: AD7945BN-ND; Supplier 2: Mouser; Supplier Part Number 2: 584-AD7945BN; Packing: Tube; RoHS: N; Mounting Technology: Through Hole; Code_JEDEC: MS-001; ComponentLink1Description: Manufacturer URL; ComponentLink1URL: http://www.analog.com/en/index.html; ComponentLink2Description: Datasheet; ComponentLink2URL: http://www.analog.com/static/imported-files/data_sheets/AD7943_7945_7948.pdf; ComponentLink3Description: Package Specification; ComponentLink3URL: http://www.analog.com/static/imported-files/packages/50601349676519N_20.pdf; ComponentLink4Description: Product URL; ComponentLink4URL: http://www.analog.com/en/digital-to-analog-converters/da-converters/ad7945/products/product.html
footprint N-20 (DIP, 20-Leads, Row Spacing 7.62mm, Pitch 2.54mm, Body 25.9x6.6mm)
pins: 1 IOUT1 (out) "DAC current output terminal 1.", 2 AGND (power) "This pin connects to the back gates of the current steering switches. The DAC IOUT2 terminal is also connected internally to this point.", 3 DGND (power) "Digital Ground.", 4 DB11 (in) "Digital Data Input.", 5 DB10 (in) "Digital Data Input.", 6 DB9 (in) "Digital Data Input.", 7 DB8 (in) "Digital Data Input.", 8 DB7 (in) "Digital Data Input.", 9 DB6 (in) "Digital Data Input.", 10 DB5 (in) "Digital Data Input.", 11 DB4 (in) "Digital Data Input.", 12 DB3 (in) "Digital Data Input.", 13 DB2 (in) "Digital Data Input.", 14 DB1 (in) "Digital Data Input.", 15 DB0 (in) "Digital Data Input.", 16 ~{CS} (in) "Active Low, Chip Select Input.", 17 ~{WR} (in) "Active Low, Write Input.", 18 VDD (power) "Power supply input. This is nominally +5 V for Normal Mode Operation and +3.3 V to +5 V for Biased Mode Operation.", 19 VREF (in) "DAC reference input.", 20 RFB (in) "DAC feedback resistor pin."

## AD7945BNZ
designator U?
Single 12-Bit Multiplying Digital-to-Analog Converter, 3.3 V / 5 V, -40 to +85 degC, N-20, Pb-Free, Tube; Generic Part Number: AD7945; Manufacturer: Analog Devices; PartNumber: AD7945BNZ; # DAC Outputs: 1; Max V+: 5.5V; Op Pwr Diss: 25µW; Resolution (Bits): 12; Settling Time: 600ns; Single Supply: Yes; DatasheetVersion: Rev.B; PackageVersion: 070706-A; PackageReference: N-20; PackageDescription: 20-Lead Plastic Dual In-Line Package [PDIP] Narrow Body; Supplier 1: Digi-Key; Supplier Part Number 1: AD7945BNZ-ND; Supplier 2: Farnell; Supplier Part Number 2: 1079425; Supplier 3: Newark; Supplier Part Number 3: 19M0907; Supplier 4: Mouser; Supplier Part Number 4: 584-AD7945BNZ; Packing: Tube; RoHS: Y; Mounting Technology: Through Hole; Code_JEDEC: MS-001; ComponentLink1Description: Manufacturer URL; ComponentLink1URL: http://www.analog.com/en/index.html; ComponentLink2Description: Datasheet; ComponentLink2URL: http://www.analog.com/static/imported-files/data_sheets/AD7943_7945_7948.pdf; ComponentLink3Description: Package Specification; ComponentLink3URL: http://www.analog.com/static/imported-files/packages/50601349676519N_20.pdf; ComponentLink4Description: Product URL; ComponentLink4URL: http://www.analog.com/en/digital-to-analog-converters/da-converters/ad7945/products/product.html
footprint N-20 (DIP, 20-Leads, Row Spacing 7.62mm, Pitch 2.54mm, Body 25.9x6.6mm)
pins: 1 IOUT1 (out) "DAC current output terminal 1.", 2 AGND (power) "This pin connects to the back gates of the current steering switches. The DAC IOUT2 terminal is also connected internally to this point.", 3 DGND (power) "Digital Ground.", 4 DB11 (in) "Digital Data Input.", 5 DB10 (in) "Digital Data Input.", 6 DB9 (in) "Digital Data Input.", 7 DB8 (in) "Digital Data Input.", 8 DB7 (in) "Digital Data Input.", 9 DB6 (in) "Digital Data Input.", 10 DB5 (in) "Digital Data Input.", 11 DB4 (in) "Digital Data Input.", 12 DB3 (in) "Digital Data Input.", 13 DB2 (in) "Digital Data Input.", 14 DB1 (in) "Digital Data Input.", 15 DB0 (in) "Digital Data Input.", 16 ~{CS} (in) "Active Low, Chip Select Input.", 17 ~{WR} (in) "Active Low, Write Input.", 18 VDD (power) "Power supply input. This is nominally +5 V for Normal Mode Operation and +3.3 V to +5 V for Biased Mode Operation.", 19 VREF (in) "DAC reference input.", 20 RFB (in) "DAC feedback resistor pin."

## AD7945BR
designator U?
Single 12-Bit Multiplying Digital-to-Analog Converter, 3.3 V / 5 V, -40 to +85 degC, RW-20, Tube; Generic Part Number: AD7945; Manufacturer: Analog Devices; PartNumber: AD7945BR; # DAC Outputs: 1; Max V+: 5.5V; Op Pwr Diss: 25µW; Resolution (Bits): 12; Settling Time: 600ns; Single Supply: Yes; DatasheetVersion: Rev.B; PackageVersion: 060706-A; PackageReference: RW-20; PackageDescription: 20-Lead Standard Small Outline Package [SOIC_W] Wide Body; Supplier 1: Digi-Key; Supplier Part Number 1: AD7945BR-ND; Supplier 2: Mouser; Supplier Part Number 2: 584-AD7945BR; Packing: Tube; RoHS: N; Mounting Technology: Surface Mount; Code_JEDEC: MS-013-AC; ComponentLink1Description: Manufacturer URL; ComponentLink1URL: http://www.analog.com/en/index.html; ComponentLink2Description: Datasheet; ComponentLink2URL: http://www.analog.com/static/imported-files/data_sheets/AD7943_7945_7948.pdf; ComponentLink3Description: Package Specification; ComponentLink3URL: http://www.analog.com/static/imported-files/packages/233848RW_20.pdf; ComponentLink4Description: Product URL; ComponentLink4URL: http://www.analog.com/en/digital-to-analog-converters/da-converters/ad7945/products/product.html
footprint RW-20_N (SOIC, 20-Leads, Body 12.8x7.5mm, Pitch 1.27mm, IPC Medium Density)
footprint RW-20_L (SOIC, 20-Leads, Body 12.8x7.5mm, Pitch 1.27mm, IPC High Density)
footprint RW-20_M (SOIC, 20-Leads, Body 12.8x7.5mm, Pitch 1.27mm, IPC Low Density)
pins: 1 IOUT1 (out) "DAC current output terminal 1.", 2 AGND (power) "This pin connects to the back gates of the current steering switches. The DAC IOUT2 terminal is also connected internally to this point.", 3 DGND (power) "Digital Ground.", 4 DB11 (in) "Digital Data Input.", 5 DB10 (in) "Digital Data Input.", 6 DB9 (in) "Digital Data Input.", 7 DB8 (in) "Digital Data Input.", 8 DB7 (in) "Digital Data Input.", 9 DB6 (in) "Digital Data Input.", 10 DB5 (in) "Digital Data Input.", 11 DB4 (in) "Digital Data Input.", 12 DB3 (in) "Digital Data Input.", 13 DB2 (in) "Digital Data Input.", 14 DB1 (in) "Digital Data Input.", 15 DB0 (in) "Digital Data Input.", 16 ~{CS} (in) "Active Low, Chip Select Input.", 17 ~{WR} (in) "Active Low, Write Input.", 18 VDD (power) "Power supply input. This is nominally +5 V for Normal Mode Operation and +3.3 V to +5 V for Biased Mode Operation.", 19 VREF (in) "DAC reference input.", 20 RFB (in) "DAC feedback resistor pin."

## AD7945BR-REEL
designator U?
Single 12-Bit Multiplying Digital-to-Analog Converter, 3.3 V / 5 V, -40 to +85 degC, RW-20, Reel; Generic Part Number: AD7945; Manufacturer: Analog Devices; PartNumber: AD7945BR-REEL; # DAC Outputs: 1; Max V+: 5.5V; Op Pwr Diss: 25µW; Resolution (Bits): 12; Settling Time: 600ns; Single Supply: Yes; DatasheetVersion: Rev.B; PackageVersion: 060706-A; PackageReference: RW-20; PackageDescription: 20-Lead Standard Small Outline Package [SOIC_W] Wide Body; Supplier 1: Digi-Key; Supplier Part Number 1: AD7945BR-REEL-ND; Supplier 2: Newark; Supplier Part Number 2: 09B6309; Supplier 3: Mouser; Supplier Part Number 3: 584-AD7945BR-R; Packing: Reel; RoHS: N; Mounting Technology: Surface Mount; Code_JEDEC: MS-013-AC; ComponentLink1Description: Manufacturer URL; ComponentLink1URL: http://www.analog.com/en/index.html; ComponentLink2Description: Datasheet; ComponentLink2URL: http://www.analog.com/static/imported-files/data_sheets/AD7943_7945_7948.pdf; ComponentLink3Description: Package Specification; ComponentLink3URL: http://www.analog.com/static/imported-files/packages/233848RW_20.pdf; ComponentLink4Description: Product URL; ComponentLink4URL: http://www.analog.com/en/digital-to-analog-converters/da-converters/ad7945/products/product.html
footprint RW-20_N (SOIC, 20-Leads, Body 12.8x7.5mm, Pitch 1.27mm, IPC Medium Density)
footprint RW-20_L (SOIC, 20-Leads, Body 12.8x7.5mm, Pitch 1.27mm, IPC High Density)
footprint RW-20_M (SOIC, 20-Leads, Body 12.8x7.5mm, Pitch 1.27mm, IPC Low Density)
pins: 1 IOUT1 (out) "DAC current output terminal 1.", 2 AGND (power) "This pin connects to the back gates of the current steering switches. The DAC IOUT2 terminal is also connected internally to this point.", 3 DGND (power) "Digital Ground.", 4 DB11 (in) "Digital Data Input.", 5 DB10 (in) "Digital Data Input.", 6 DB9 (in) "Digital Data Input.", 7 DB8 (in) "Digital Data Input.", 8 DB7 (in) "Digital Data Input.", 9 DB6 (in) "Digital Data Input.", 10 DB5 (in) "Digital Data Input.", 11 DB4 (in) "Digital Data Input.", 12 DB3 (in) "Digital Data Input.", 13 DB2 (in) "Digital Data Input.", 14 DB1 (in) "Digital Data Input.", 15 DB0 (in) "Digital Data Input.", 16 ~{CS} (in) "Active Low, Chip Select Input.", 17 ~{WR} (in) "Active Low, Write Input.", 18 VDD (power) "Power supply input. This is nominally +5 V for Normal Mode Operation and +3.3 V to +5 V for Biased Mode Operation.", 19 VREF (in) "DAC reference input.", 20 RFB (in) "DAC feedback resistor pin."

## AD7945BRS
designator U?
Single 12-Bit Multiplying Digital-to-Analog Converter, 3.3 V / 5 V, -40 to +85 degC, RS-20, Tube; Generic Part Number: AD7945; Manufacturer: Analog Devices; PartNumber: AD7945BRS; # DAC Outputs: 1; Max V+: 5.5V; Op Pwr Diss: 25µW; Resolution (Bits): 12; Settling Time: 600ns; Single Supply: Yes; DatasheetVersion: Rev.B; PackageVersion: Mar-2003; PackageReference: RS-20; PackageDescription: 20-Lead Shrink Small Outline Package [SSOP]; Supplier 1: Digi-Key; Supplier Part Number 1: AD7945BRS-ND; Supplier 2: Mouser; Supplier Part Number 2: 584-AD7945BRS; Packing: Tube; RoHS: N; Mounting Technology: Surface Mount; Code_JEDEC: MO-150AE; ComponentLink1Description: Manufacturer URL; ComponentLink1URL: http://www.analog.com/en/index.html; ComponentLink2Description: Datasheet; ComponentLink2URL: http://www.analog.com/static/imported-files/data_sheets/AD7943_7945_7948.pdf; ComponentLink3Description: Package Specification; ComponentLink3URL: http://www.analog.com/static/imported-files/packages/318405805657546556503576154334802686596RS_20.pdf; ComponentLink4Description: Product URL; ComponentLink4URL: http://www.analog.com/en/digital-to-analog-converters/da-converters/ad7945/products/product.html
footprint RS-20_N (SOP, 20-Leads, Body 7.2x5.3mm, Pitch 0.65mm, IPC Medium Density)
footprint RS-20_L (SOP, 20-Leads, Body 7.2x5.3mm, Pitch 0.65mm, IPC High Density)
footprint RS-20_M (SOP, 20-Leads, Body 7.2x5.3mm, Pitch 0.65mm, IPC Low Density)
pins: 1 IOUT1 (out) "DAC current output terminal 1.", 2 AGND (power) "This pin connects to the back gates of the current steering switches. The DAC IOUT2 terminal is also connected internally to this point.", 3 DGND (power) "Digital Ground.", 4 DB11 (in) "Digital Data Input.", 5 DB10 (in) "Digital Data Input.", 6 DB9 (in) "Digital Data Input.", 7 DB8 (in) "Digital Data Input.", 8 DB7 (in) "Digital Data Input.", 9 DB6 (in) "Digital Data Input.", 10 DB5 (in) "Digital Data Input.", 11 DB4 (in) "Digital Data Input.", 12 DB3 (in) "Digital Data Input.", 13 DB2 (in) "Digital Data Input.", 14 DB1 (in) "Digital Data Input.", 15 DB0 (in) "Digital Data Input.", 16 ~{CS} (in) "Active Low, Chip Select Input.", 17 ~{WR} (in) "Active Low, Write Input.", 18 VDD (power) "Power supply input. This is nominally +5 V for Normal Mode Operation and +3.3 V to +5 V for Biased Mode Operation.", 19 VREF (in) "DAC reference input.", 20 RFB (in) "DAC feedback resistor pin."